# EAGLE library part A?-LC-TT (library AssmannWSWComponents)
8-Pin Dual Inline Packaging (DIP) Integrated Circuit (IC) Socket 0.300" Row Spacing
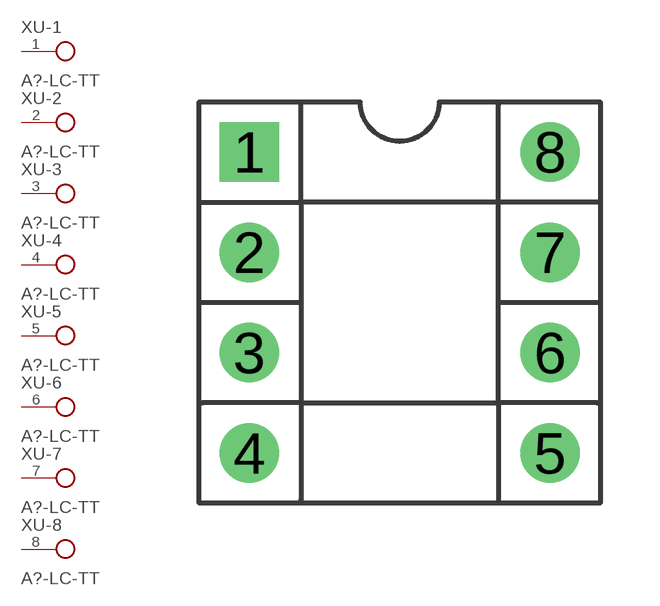
[diagram p0: symbol with the pads of DIP8; footprint DIP8]

Designator prefix XU; gates -1=IC_SOCKET_CONNECTOR -2=IC_SOCKET_CONNECTOR -3=IC_SOCKET_CONNECTOR -4=IC_SOCKET_CONNECTOR -5=IC_SOCKET_CONNECTOR -6=IC_SOCKET_CONNECTOR -7=IC_SOCKET_CONNECTOR -8=IC_SOCKET_CONNECTOR

## A08-LC-TT (CATEGORY: Connectors, Interconnects; CONTACT_FINISH-MATING: Tin; CONTACT_FINISH-POST: Tin; CONTACT_FINISH_THICKNESS-MATING: -; CONTACT_FINISH_THICKNESS-POST: -; CONTACT_MATERIAL-MATING: Phosphor Bronze; CONTACT_MATERIAL-POST: Phosphor Bronze; CONTACT_RESISTANCE: 30 mOhm; CURRENT_RATING: 1A; DESCRIPTION: CONN IC DIP SOCKET 8POS TIN; FAMILY: Sockets for ICs, Transistors; FEATURES: Open Frame; HOUSING_MATERIAL: Polybutylene Terephthalate (PBT); MANUFACTURER: Assmann WSW Components; MATERIAL_FLAMMABILITY_RATING: UL94 V-0; MOUNTING_TYPE: Through Hole; NUMBER_OF_POSITIONS_OR_PINS-GRID: 8 (2 x 4); OPERATING_TEMPERATURE: -55°C ~ 85°C; PART_NUMBER: A08-LC-TT; PITCH-MATING: 0.100" (2.54mm); PITCH-POST: 0.100" (2.54mm); SERIES: -; SUPPLIER_ITEM_LINK: <a href="https://www.digikey.com/product-detail/en/A08-LC-TT/AE9986-ND/821740">Details</a>; SUPPLIER_ITEM_NUMBER: AE9986-ND; SUPPLIER_ITEM_URL: https://www.digikey.com/product-detail/en/A08-LC-TT/AE9986-ND/821740; SUPPLIER_LINK: <a href="http://www.digikey.com">Home Page</a>; SUPPLIER_NAME: Digi-Key; SUPPLIER_URL: http://www.digikey.com; TERMINATION: Solder; TERMINATION_POST_LENGTH: 0.124" (3.15mm); TYPE: DIP, 0.3" (7.62mm) Row Spacing)  [DIP8]
1  -1:P$1  pas
2  -2:P$1  pas
3  -3:P$1  pas
4  -4:P$1  pas
5  -5:P$1  pas
6  -6:P$1  pas
7  -7:P$1  pas
8  -8:P$1  pas

## Footprint DIP8 (pad centres in mm)
8-Pin 0.100" Pitch, 0.300" Row Spacing Dual Inline Package (DIP)
drill 1 square: 1 -3.81,3.81
drill 1: 2 -3.81,1.27; 3 -3.81,-1.27; 4 -3.81,-3.81; 5 3.81,-3.81; 6 3.81,-1.27; 7 3.81,1.27; 8 3.81,3.81